# Altium footprint library BSPO.PcbLib: 178 footprints (part 12 of 12)
Each footprint in its own frame and in the unit in brackets; x right, y up, seen from the top. Pads: shape width x height; smd on the part's side, far side on the other; paste and mask are expansions set on the pad; w line width, h text height; cw(c..) or ccw(c..) is an arc to the next point about the centre after c.
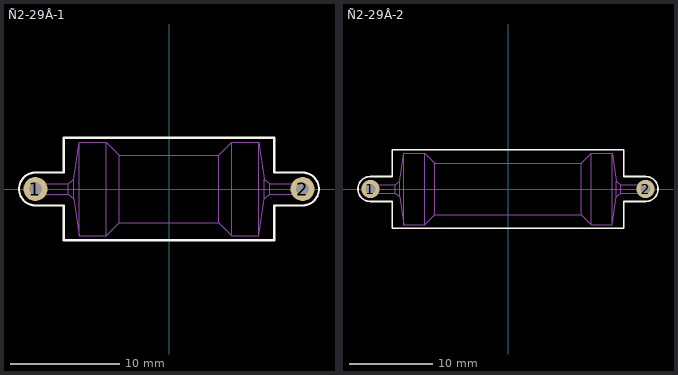
[diagram p11: the footprints below, top view; thin cyan lines are the x and y axes]

## Ñ2-29Â-1 [mm]
pads (2):
  round 2.2 hole 1.2: 1(-12.25,0) 2(12.25,0)
Top Overlay:
  lines w0.2: -12.25,-1.5 cw(c-12.25,0) -12.25,1.5 -9.65,1.5 -9.65,4.7 9.65,4.7 9.65,1.5 12.25,1.5 cw(c12.25,0) 12.25,-1.5 9.65,-1.5 9.65,-4.7 -9.65,-4.7 -9.65,-1.5 -12.25,-1.5
Mechanical 1:
  lines w0.05: -9.25,-0.5 -8.75,-0.9 ; -9.25,-0.5 -9.25,0.5 ; -9.25,-0.5 -12.25,-0.5 cw(c-12.25,0) -12.25,0.5 -9.25,0.5 ; -9.25,0.5 -8.75,0.9 ; -8.75,-0.9 -8.25,-4.3 ; -8.75,-0.9 -8.75,0.9 ; -8.75,0.9 -8.25,4.3 ; -8.25,-4.3 -8.25,4.3 ; -8.25,-4.3 -5.75,-4.3 ; -8.25,4.3 -5.75,4.3 ; -5.75,-4.3 -4.55,-3.1 ; -5.75,-4.3 -5.75,4.3 ; -5.75,4.3 -4.55,3.1 ; -4.55,-3.1 4.55,-3.1 ; -4.55,-3.1 -4.55,3.1 ; -4.55,3.1 4.55,3.1 ; 4.55,-3.1 5.75,-4.3 ; 4.55,-3.1 4.55,3.1 ; 4.55,3.1 5.75,4.3 ; 5.75,-4.3 8.25,-4.3 ; 5.75,-4.3 5.75,4.3 ; 5.75,4.3 8.25,4.3 ; 8.25,-4.3 8.25,4.3 ; 8.25,-4.3 8.75,-0.9 ; 8.25,4.3 8.75,0.9 ; 8.75,-0.9 8.75,0.9 ; 8.75,-0.9 9.25,-0.5 ; 8.75,0.9 9.25,0.5 ; 9.25,-0.5 12.25,-0.5 ccw(c12.25,0) 12.25,0.5 9.25,0.5 ; 9.25,-0.5 9.25,0.5

## Ñ2-29Â-2 [mm]
pads (2):
  round 2.2 hole 1.2: 1(-16.5,0) 2(16.5,0)
Top Overlay:
  lines w0.2: -16.5,-1.5 cw(c-16.5,0) -16.5,1.5 -13.9,1.5 -13.9,4.7 13.9,4.7 13.9,1.5 16.5,1.5 cw(c16.5,0) 16.5,-1.5 13.9,-1.5 13.9,-4.7 -13.9,-4.7 -13.9,-1.5 -16.5,-1.5
Mechanical 1:
  lines w0.05: -13.5,-0.5 -13,-0.9 ; -13.5,-0.5 -13.5,0.5 ; -13.5,-0.5 -16.5,-0.5 cw(c-16.5,0) -16.5,0.5 -13.5,0.5 ; -13.5,0.5 -13,0.9 ; -13,-0.9 -12.5,-4.3 ; -13,-0.9 -13,0.9 ; -13,0.9 -12.5,4.3 ; -12.5,-4.3 -12.5,4.3 ; -12.5,-4.3 -10,-4.3 ; -12.5,4.3 -10,4.3 ; -10,-4.3 -8.8,-3.1 ; -10,-4.3 -10,4.3 ; -10,4.3 -8.8,3.1 ; -8.8,-3.1 8.8,-3.1 ; -8.8,-3.1 -8.8,3.1 ; -8.8,3.1 8.8,3.1 ; 8.8,-3.1 10,-4.3 ; 8.8,-3.1 8.8,3.1 ; 8.8,3.1 10,4.3 ; 10,-4.3 10,4.3 ; 10,-4.3 12.5,-4.3 ; 10,4.3 12.5,4.3 ; 12.5,-4.3 12.5,4.3 ; 12.5,-4.3 13,-0.9 ; 12.5,4.3 13,0.9 ; 13,-0.9 13,0.9 ; 13,-0.9 13.5,-0.5 ; 13,0.9 13.5,0.5 ; 13.5,-0.5 16.5,-0.5 ccw(c16.5,0) 16.5,0.5 13.5,0.5 ; 13.5,-0.5 13.5,0.5